# Altium footprint library Inductor.PcbLib: 2 footprints
Each footprint in its own frame and in the unit in brackets; x right, y up, seen from the top. Pads: shape width x height; smd on the part's side, far side on the other; paste and mask are expansions set on the pad; w line width, h text height; cw(c..) or ccw(c..) is an arc to the next point about the centre after c.
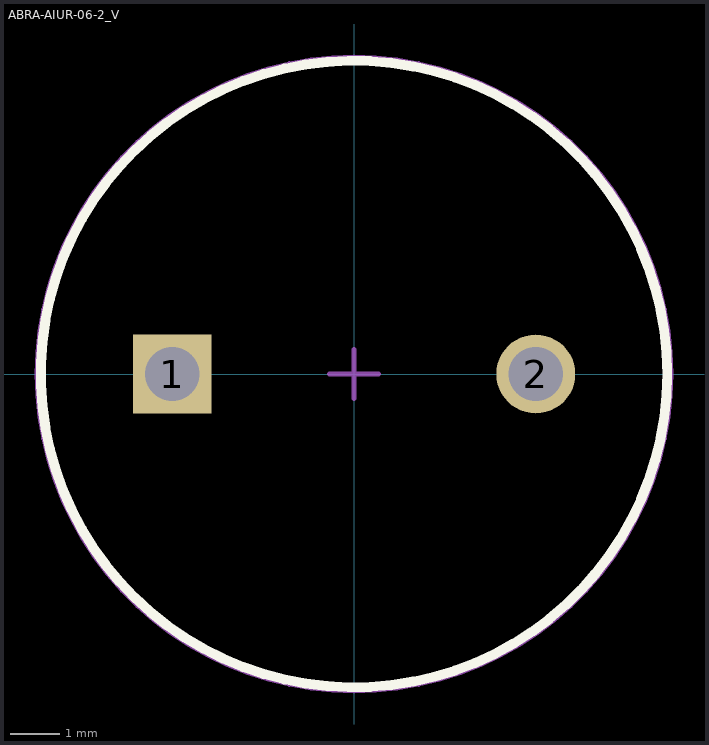
[diagram p0: the footprints below, top view; thin cyan lines are the x and y axes]

## ABRA-AIUR-06-2_V [mm] "Through Hole, 2-Leads, Dia 12.7mm"
height 18
pads (2):
  rect 1.6x1.6 hole 1.1: 1(-3.685,0)
  round 1.6 hole 1.1: 2(3.685,0)
Top Overlay:
  circle w0.2: c0,0 r6.35
Mechanical 13:
  circle w0.1: c0,0 r6.35
Mechanical 15:
  circle w0.05: c0,0 r6.45
  lines w0.1: -0.5,0 0.5,0 ; 0,-0.5 0,0.5
3D body: height 18, standoff 0, extent -6.349,-6.349 6.349,6.349

## PCBComponent_1 [mm]